# EAGLE library part VNH7100BAS (library motordrivers)
VNH7100BAS Motor Driver IC from ST Microelectronics. For more details see: STM <http://www.st.com/en/automotive-analog-and-power/vnh7100bas.html> Author: Jordan Burklund
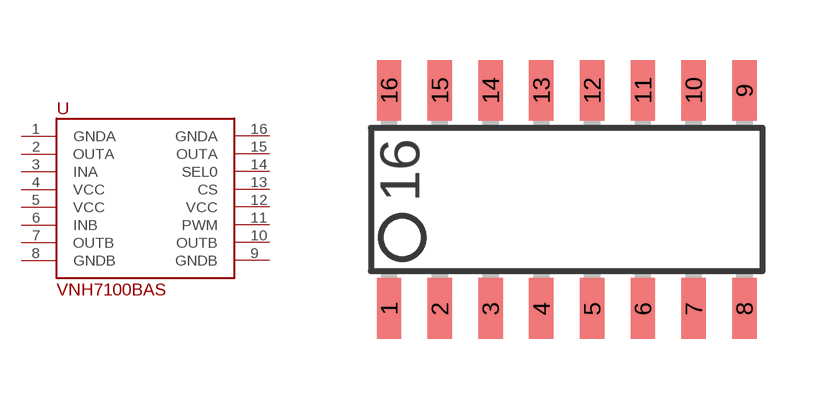
[diagram p0: symbol with the pads of SO-16; footprint SO-16]

Designator prefix U

## VNH7100BASSO-16N  [SO-16]
1  GNDA  pwr
2  OUTA
3  INA
4  VCC  pwr
5  VCC  pwr
6  INB
7  OUTB
8  GNDB  pwr
9  GNDB  pwr
10  OUTB
11  PWM
12  VCC  pwr
13  CS
14  SEL0
15  OUTA
16  GNDA  pwr

## Footprint SO-16 (pad centres in mm)
Small Outline Integrated Circuit
smd 0.61 x 1.524: 1 -4.445,-2.794; 2 -3.175,-2.794; 3 -1.905,-2.794; 4 -0.635,-2.794; 5 0.635,-2.794; 6 1.905,-2.794; 7 3.175,-2.794; 8 4.445,-2.794; 9 4.445,2.667; 10 3.175,2.667; 11 1.905,2.667; 12 0.635,2.667; 13 -0.635,2.667; 14 -1.905,2.667; 15 -3.175,2.667; 16 -4.445,2.667